# EAGLE library part LM4893MA (library dviid)
1 Watt Audio Power Amplifier
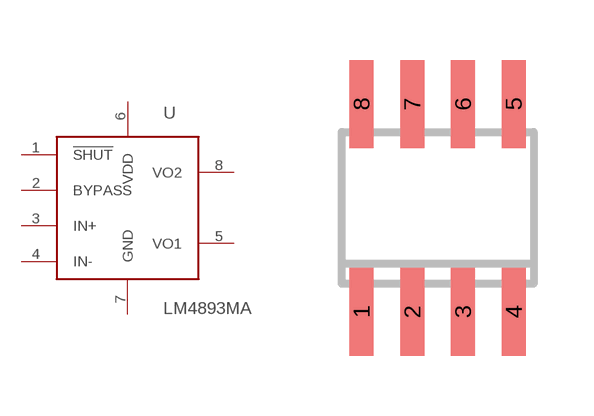
[diagram p5: symbol with the pads of SOIC8; footprint SOIC8]

Designator prefix -

## LM4893MA  [SOIC8]
1  !SHUT  in
2  BYPASS
3  IN+
4  IN-
5  VO1
6  VDD  pwr
7  GND  pwr
8  VO2

## Footprint SOIC8 (pad centres in mm)
smd 0.6 x 2.2: 1 -1.905,-2.6; 2 -0.635,-2.6; 3 0.635,-2.6; 4 1.905,-2.6; 5 1.905,2.6; 6 0.635,2.6; 7 -0.635,2.6; 8 -1.905,2.6